# EAGLE library part SBH11-PBPC-D06 (library con-sullins)
HEADER - Vertical, Shrouded
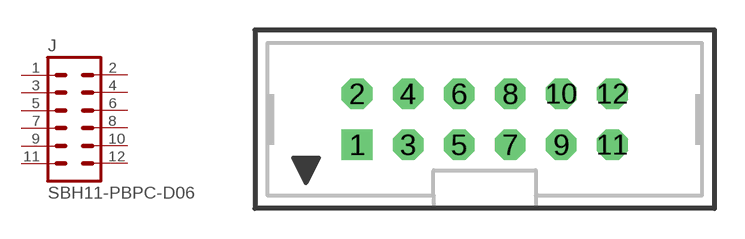
[diagram p38: symbol with the pads of SBH11-PBPC-D06; footprint SBH11-PBPC-D06]

Designator prefix J

## SBH11-PBPC-D06  [SBH11-PBPC-D06]
1  1  pas
2  2  pas
3  3  pas
4  4  pas
5  5  pas
6  6  pas
7  7  pas
8  8  pas
9  9  pas
10  10  pas
11  11  pas
12  12  pas

## Footprint SBH11-PBPC-D06 (pad centres in mm)
HEADER - 0.1", Shrouded, Vertical
drill 1.016 square: 1 -6.35,-1.27
drill 1.016 octagon: 2 -6.35,1.27; 3 -3.81,-1.27; 4 -3.81,1.27; 5 -1.27,-1.27; 6 -1.27,1.27; 7 1.27,-1.27; 8 1.27,1.27; 9 3.81,-1.27; 10 3.81,1.27; 11 6.35,-1.27; 12 6.35,1.27